# EAGLE library part AD8643 (library Fitch_Eagle_Library)
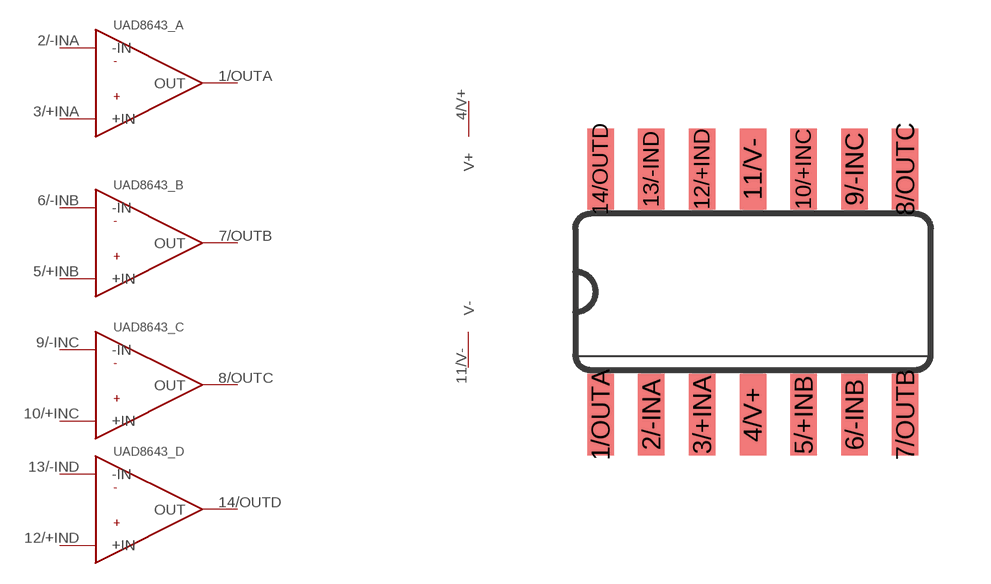
[diagram p3: symbol with the pads of AD8643; footprint AD8643]

Designator prefix -; gates AD8643_A=AD8643 AD8643_B=AD8643 AD8643_C=AD8643 AD8643_D=AD8643 G$1=V+/V-

## AD8643  [AD8643]
1/OUTA  AD8643_A:OUT
2/-INA  AD8643_A:-IN
3/+INA  AD8643_A:+IN
4/V+  G$1:V+
5/+INB  AD8643_B:+IN
6/-INB  AD8643_B:-IN
7/OUTB  AD8643_B:OUT
8/OUTC  AD8643_C:OUT
9/-INC  AD8643_C:-IN
10/+INC  AD8643_C:+IN
11/V-  G$1:V-
12/+IND  AD8643_D:+IN
13/-IND  AD8643_D:-IN
14/OUTD  AD8643_D:OUT

## Footprint AD8643 (pad centres in mm)
smd 0.66 x 2.032: 1/OUTA -3.81,-3.073; 2/-INA -2.54,-3.073; 3/+INA -1.27,-3.073; 4/V+ 0,-3.073; 5/+INB 1.27,-3.073; 6/-INB 2.54,-3.073; 7/OUTB 3.81,-3.073; 8/OUTC 3.81,3.073; 9/-INC 2.54,3.073; 10/+INC 1.27,3.073; 11/V- 0,3.073; 12/+IND -1.27,3.073; 13/-IND -2.54,3.073; 14/OUTD -3.81,3.073